# Altium footprint library Face_MainBack1V0.PcbLib: 26 footprints (part 1 of 2)
Each footprint in its own frame and in the unit in brackets; x right, y up, seen from the top. Pads: shape width x height; smd on the part's side, far side on the other; paste and mask are expansions set on the pad; w line width, h text height; cw(c..) or ccw(c..) is an arc to the next point about the centre after c.
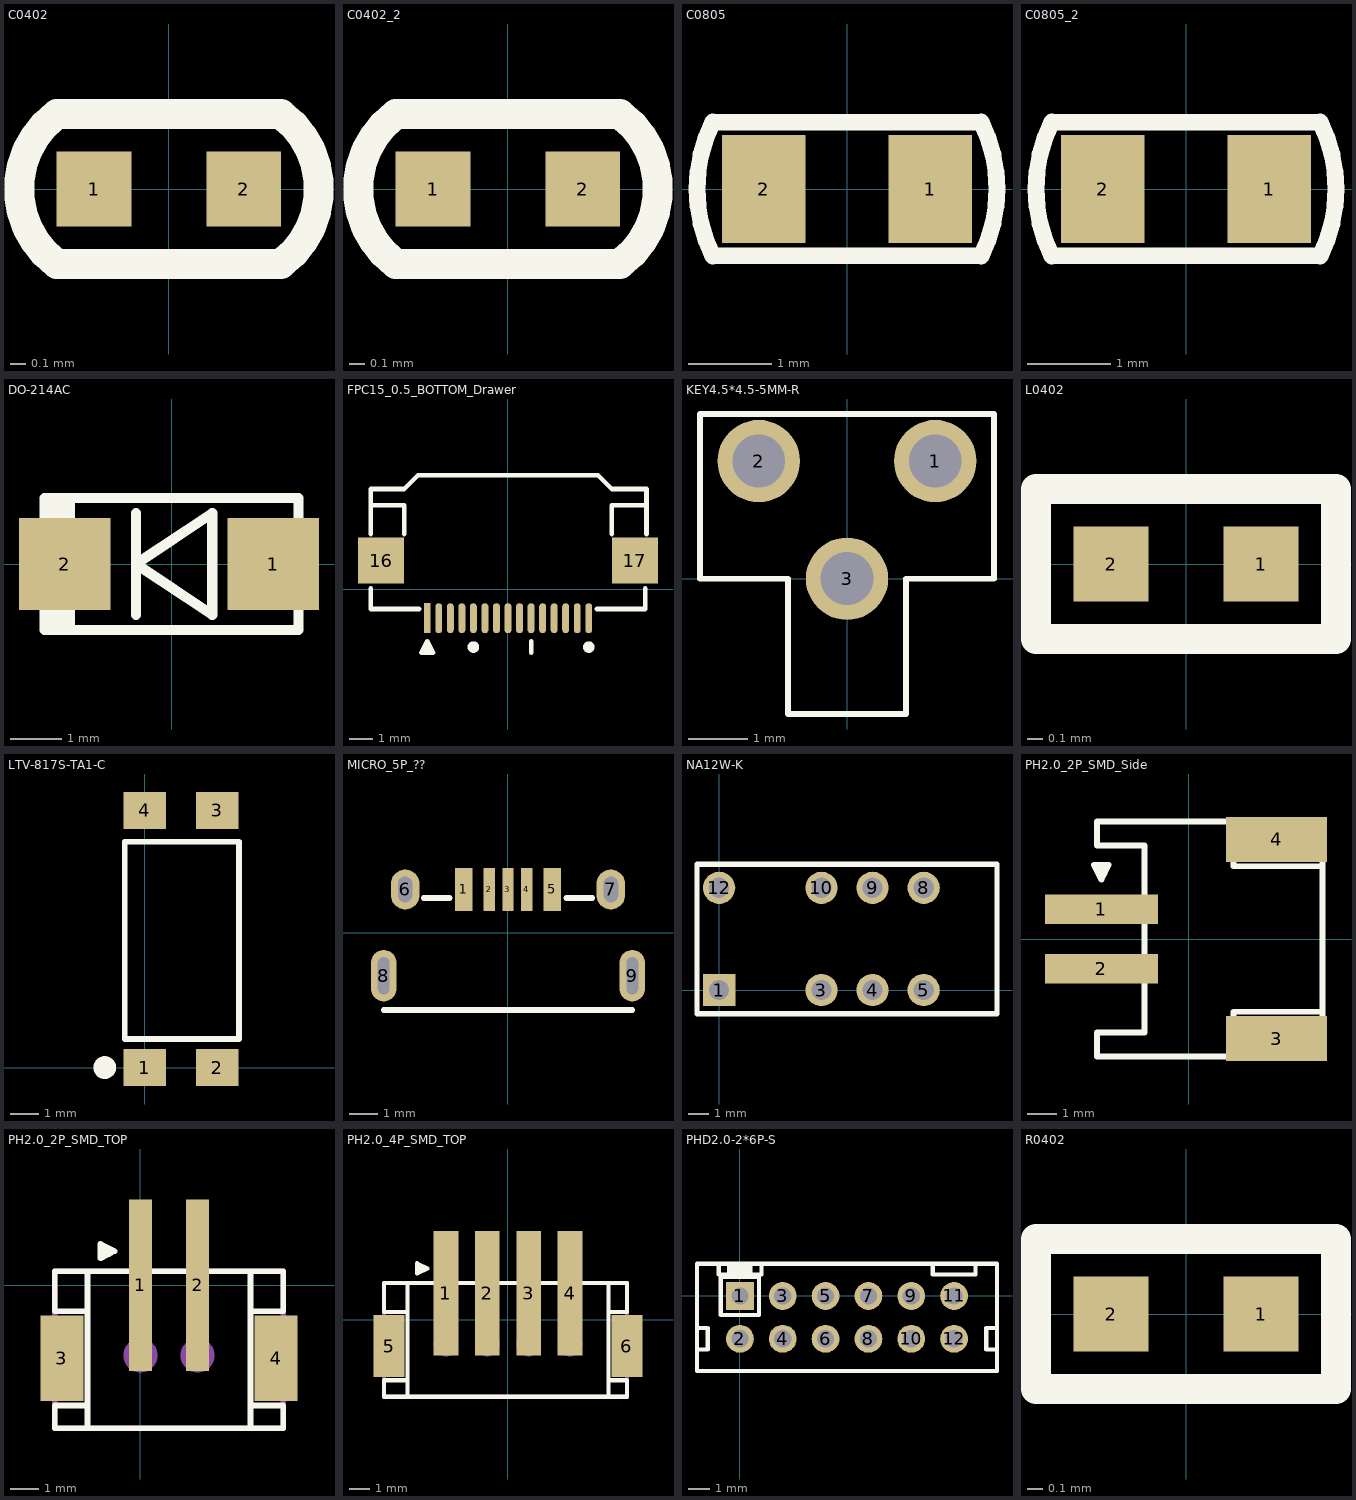
[diagram p0: the footprints below, top view; thin cyan lines are the x and y axes]

## C0402 [mm]
pads (2):
  rect 0.5x0.5 smd: 1(-0.5,0) 2(0.5,0)
Top Overlay:
  lines w0.2: -0.75,-0.5 cw(c-0.38,0) -0.75,0.5 0.75,0.5 cw(c0.381,0) 0.75,-0.5 -0.75,-0.5
3D body "SW3dPS-0402 SMD Capacitor.STEP": height 0.2, standoff 0, extent -0.5,-0.3 0.5,0.3

## C0402_2 [mm]
pads (2):
  rect 0.5x0.5 smd: 1(-0.5,0) 2(0.5,0)
Top Overlay:
  lines w0.2: -0.75,-0.5 cw(c-0.38,0) -0.75,0.5 0.75,0.5 cw(c0.381,0) 0.75,-0.5 -0.75,-0.5
3D body "SW3dPS-0402 SMD Capacitor.STEP": height 0.2, standoff 0, extent -0.5,-0.3 0.5,0.3

## C0805 [mm]
pads (2):
  rect 1x1.3 smd: 1(1,0) 2(-1,0)
Top Overlay:
  lines w0.2: -1.61,-0.805 cw(c0,0) -1.61,0.805 ; -1.6,-0.8 1.6,-0.8 ; -1.6,0.8 1.6,0.8 ; 1.61,-0.805 ccw(c0,0) 1.61,0.805
3D body "SW3dPS-0805 SMD Capacitor.STEP": height 0.78, standoff 0, extent -1,-0.625 1,0.625

## C0805_2 [mm]
pads (2):
  rect 1x1.3 smd: 1(1,0) 2(-1,0)
Top Overlay:
  lines w0.2: -1.61,-0.805 cw(c0,0) -1.61,0.805 ; -1.6,-0.8 1.6,-0.8 ; -1.6,0.8 1.6,0.8 ; 1.61,-0.805 ccw(c0,0) 1.61,0.805
3D body "SW3dPS-0805 SMD Capacitor.STEP": height 0.78, standoff 0, extent -1,-0.625 1,0.625

## DO-214AC [mm]
pads (2):
  rect 1.8x1.8 smd: 1(2,0) 2(-2.1,0)
Top Overlay:
  lines w0.2: -2.4,-1.2 -2.4,-0.9 ; -2.4,0.9 -2.4,1.3 ; -2.3,-0.9 -2,-0.9 -2,-1.3 ; -2.3,0.9 -2,0.9 -2,1.3 ; -2.2,-1.3 -2.2,-0.9 -2.5,-0.9 -2.5,-1.3 2.5,-1.3 2.5,-0.9 ; -2.2,1.3 -2.2,0.9 -2.5,0.9 -2.5,1.3 2.5,1.3 2.5,0.9 ; -0.7,-1 -0.7,1 ; -0.7,0 0.8,-1 0.8,1 -0.7,0
3D body "User Library-DO-214AC(SMA).STEP": height 2.24, standoff -0.04, extent -2.743,-1.397 2.743,1.397

## FPC15_0.5_BOTTOM_Drawer [mm]
pads (17):
  rect 0.3x1.3 smd mask+0.05: 1(-3.5,-1.25)
  oval 0.3x1.3 smd mask+0.05: 2(-3,-1.25) 3(-2.5,-1.25) 4(-2,-1.25) 5(-1.5,-1.25) 6(-1,-1.25) 7(-0.5,-1.25) 8(0,-1.25) 9(0.5,-1.25) 10(1,-1.25) 11(1.5,-1.25) 12(2,-1.25) 13(2.5,-1.25) 14(3,-1.25) 15(3.5,-1.25)
  rect 2x2 smd: 16(-5.5,1.25) 17(5.5,1.25)
Top Overlay:
  circle w0.25: c3.5,-2.5 r0.125
  circle w0.25: c-1.5,-2.5 r0.125
  lines w0.2: -5.95,0.05 -5.95,-0.85 -3.85,-0.85 ; -5.95,2.4 -5.95,3.65 ; -4.5,2.4 -4.5,3.65 -5.95,3.65 ; -3.6,-2.75 -3.6,-2.45 ; -3.5,-2.75 -3.5,-2.25 ; -3.4,-2.75 -3.4,-2.45 ; 1,-2.75 1,-2.25 ; 3.85,-0.85 5.95,-0.85 5.95,0.05 ; 4.5,2.4 4.5,3.65 6,3.65 ; 6,2.4 6,3.65 ; -5.95,3.65 -5.95,4.35 -4.5,4.35 -3.9,4.95 3.9,4.95 4.5,4.35 6,4.35 6,3.65 ; -3.5,-2.25 -3.25,-2.75 -3.75,-2.75 -3.5,-2.25
3D body "FPC15.STEP": height 2, standoff 0, extent -5.87,-1.409 5.85,4.7

## KEY4.5*4.5-5MM-R [mm]
pads (3):
  round 1.4 hole 0.9: 1(1.5,2) 2(-1.5,2) 3(0,0)
Top Overlay:
  lines w0.1: -2.5,0 -2.5,2.8 2.5,2.8 2.5,0 1,0 1,-2.3 -1,-2.3 -1,0 -2.5,0
3D body "Button vertical.STEP": height 4.5, standoff 0, extent -2.23,-2.09 2.27,2.71

## L0402 [mm]
pads (2):
  rect 0.5x0.5 smd: 1(0.5,0) 2(-0.5,0)
Top Overlay:
  lines w0.2: -1,-0.5 -1,0.5 1,0.5 1,-0.5 -1,-0.5
3D body "User Library-Chip Inductor 0402.step": height 0.5, standoff 0, extent -0.5,-0.3 0.5,0.3

## LTV-817S-TA1-C [mm] "LTV-817S-TA1-C"
pads (4):
  rect 1.5x1.3 smd: 1(0,0) 2(2.54,0) 3(2.54,9) 4(0,9)
Top Overlay:
  circle w0.4: c-1.4,0 r0.2
  lines w0.2: -0.7,1 -0.7,7.9 3.3,7.9 3.3,1 -0.7,1
3D body: height 3.5, standoff 0, extent -0.8,0.1 3.3,8.9

## MICRO_5P_?? [mm]
pads (9):
  rect 0.6x1.5 smd: 1(-1.55,1.51) 5(1.55,1.51)
  rect 0.4x1.5 smd: 2(-0.65,1.51) 3(0,1.51) 4(0.65,1.51)
  oval 1x1.4 hole 0.9 slot 0.5 at 0 deg: 6(-3.6,1.51) 7(3.6,1.51)
  oval 0.9x1.8 hole 1.3 slot 0.4 at 0 deg: 8(-4.35,-1.51) 9(4.35,-1.51)
Top Overlay:
  lines w0.2: -4.35,-2.71 4.35,-2.71 ; -2.95,1.21 -2.05,1.21 ; 2.05,1.21 2.95,1.21

## NA12W-K [mm]
pads (8):
  rect 1.6x1.6 hole 1: 1(0,0)
  round 1.6 hole 1: 3(5.08,0) 4(7.62,0) 5(10.16,0) 8(10.16,5.08) 9(7.62,5.08) 10(5.08,5.08) 12(0,5.08)
Top Overlay:
  lines w0.254: -1.1,-1.175 13.8,-1.175 13.8,6.25 -1.1,6.25 -1.1,-1.175
3D body "User Library-NA12W-K.STEP": height 9.7, standoff -3, extent -1.1,-1.2 13.8,6.2

## PH2.0_2P_SMD_Side [mm] "WAFER 2.0mm SIDE ENTRY SMT"
height 5.6
pads (4):
  rect 3.8x1 smd: 1(-2.95,1) 2(-2.95,-1)
  rect 3.4x1.5 smd: 3(2.95,-3.35) 4(2.95,3.35)
Top Overlay:
  lines w0.2: -3.05,2.2 -3.05,2.5 ; -2.95,2.5 -2.95,2 ; -2.85,2.2 -2.85,2.5 ; 1.5,-3.95 1.5,-2.45 4.5,-2.45 ; 1.5,3.95 1.5,2.45 4.5,2.45 ; 3.7,-3.45 3.7,-3.95 -3.1,-3.95 -3.1,-3.15 -1.5,-3.15 -1.5,3.15 -3.1,3.15 -3.1,3.95 3.7,3.95 3.7,3.45 ; 4.5,-3.05 1.6,-3.05 1.6,-3.45 4.5,-3.45 4.5,3.45 1.6,3.45 1.6,3.05 4.5,3.05 ; -2.95,2 -2.7,2.5 -3.2,2.5 -2.95,2
3D body "S2B-PH-SM4-TB.STEP": height 5.5, standoff -0.1, extent -4.1,-3.95 4.5,3.95

## PH2.0_2P_SMD_TOP [mm] "WAFER 2.0mm TOP ENTRY SMT"
height 6.1
pads (6):
  rect 0.8x6 smd mask+0.05: 1(0,0) 2(2,0)
  rect 1.5x3 smd mask+0.05: 3(-2.75,-2.55) 4(4.75,-2.55)
  round 1.2 on Mech4: ""(0,-2.45) ""(2,-2.45)
Top Overlay:
  lines w0.2: -1.85,-5 -1.85,-4.2 ; -1.85,0.5 -1.85,-0.9 ; -1.4,1.1 -1.1,1.1 ; -1.4,1.2 -0.9,1.2 ; -1.4,1.3 -1.1,1.3 ; 3.85,-5 3.85,-4.2 ; 3.85,0.5 3.85,-0.9 ; -1.85,-4.2 -3,-4.2 -3,-5 5,-5 5,-4.2 3.85,-4.2 ; -1.85,-4.2 -1.85,-0.9 ; -1.85,-0.9 -3,-0.9 -3,0.5 5,0.5 5,-0.9 3.85,-0.9 ; -0.9,1.2 -1.4,1.45 -1.4,0.95 -0.9,1.2 ; 3.85,-4.2 3.85,-0.9
Mechanical 4:
  lines w0.2: -3,-5 5,-5 5,0.5 -3,0.5 -3,-5
3D body "User Library-DS1066-04-2MSV6.STEP": height 6.5, standoff 0, extent -3.05,-4.95 4.95,2.45

## PH2.0_4P_SMD_TOP [mm] "WAFER 2.0mm TOP ENTRY SMT"
height 6.1
pads (10):
  rect 1.2x6 smd mask+0.05: 1(-3,1.275) 2(-1,1.275) 3(1,1.275) 4(3,1.275)
  rect 1.5x3 smd mask+0.05: 5(-5.75,-1.275) 6(5.75,-1.275)
  round 1.2 on Mech4: ""(-3,-1.175) ""(-1,-1.175) ""(1,-1.175) ""(3,-1.175)
Top Overlay:
  lines w0.2: -4.85,-3.725 -4.85,-2.925 ; -4.85,1.775 -4.85,0.375 ; -4.4,2.375 -4.1,2.375 ; -4.4,2.475 -3.9,2.475 ; -4.4,2.575 -4.1,2.575 ; 4.85,-3.725 4.85,-2.925 ; 4.85,1.775 4.85,0.375 ; -4.85,-2.925 -4.85,0.375 ; -4.85,-2.925 -6,-2.925 -6,-3.725 5.75,-3.725 5.75,-2.925 4.85,-2.925 ; -4.85,0.375 -6,0.375 -6,1.775 5.75,1.775 5.75,0.375 ; -3.9,2.475 -4.4,2.225 -4.4,2.725 -3.9,2.475 ; 4.85,-2.925 4.85,0.375 ; 4.85,0.375 5.75,0.375 ; 5.75,0.375 5.75,0.375
Mechanical 4:
  lines w0.2: -6,-3.725 -6,1.775 5.75,1.775 5.75,-3.725 -6,-3.725
3D body "B4B-PH-SM4-TB.STEP": height 6.6, standoff 0, extent -5.975,-3.4 5.975,3.6

## PHD2.0-2*6P-S [mm]
pads (12):
  rect 1.3x1.3 hole 0.8 mask+0.05: 1(0,0)
  round 1.3 hole 0.8 mask+0.05: 2(0,-2) 3(2,0) 4(2,-2) 5(4,0) 6(4,-2) 7(6,0) 8(6,-2) 9(8,0) 10(8,-2) 11(10,0) 12(10,-2)
Top Overlay:
  region: -0.599,1.533 -0.599,0.898 0.601,0.898 0.601,1.533
  lines w0.2: -2,-1.5 -1.5,-1.5 -1.5,-2.5 -1.9,-2.5 ; -0.989,1.5 -0.989,1 1.011,1 1.011,1.5 ; 9,1.5 9,1 11,1 11,1.5 ; 12,-2.5 11.5,-2.5 11.5,-1.5 12,-1.5 ; -2,-3.5 -2,1.5 12,1.5 12,-3.5 -2,-3.5 ; -0.889,-0.889 0.889,-0.889 0.889,0.889 -0.889,0.889 -0.889,-0.889
Bottom Overlay:
  lines w0.2: -0.889,-0.889 0.889,-0.889 0.889,0.889 -0.889,0.889 -0.889,-0.889
3D body "PH2.0_26.STEP": height 6.5, standoff -1.5, extent -2,-3.55 12,1.45

## R0402 [mm]
pads (2):
  rect 0.5x0.5 smd: 1(0.5,0) 2(-0.5,0)
Top Overlay:
  lines w0.2: -1,-0.5 1,-0.5 1,0.5 -1,0.5 -1,-0.5
3D body "User Library-R_0402.STEP": height 0.35, standoff 0, extent -0.5,-0.25 0.5,0.25